# Altium footprint library THT_Components.PcbLib: 4 footprints
Each footprint in its own frame and in the unit in brackets; x right, y up, seen from the top. Pads: shape width x height; smd on the part's side, far side on the other; paste and mask are expansions set on the pad; w line width, h text height; cw(c..) or ccw(c..) is an arc to the next point about the centre after c.
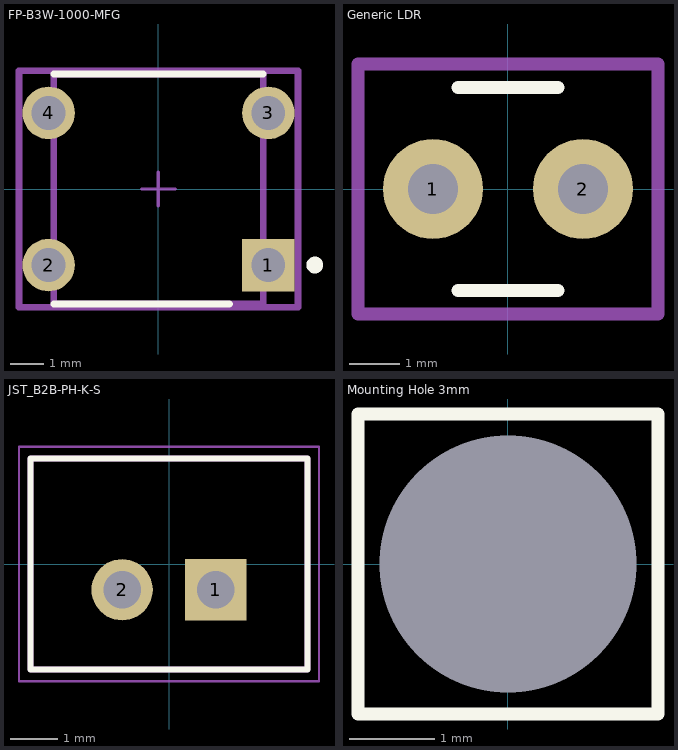
[diagram p0: the footprints below, top view; thin cyan lines are the x and y axes]

## FP-B3W-1000-MFG [mm] "Tactile switch 6x6mm THT"
pads (4):
  rect 1.55x1.55 hole 1 paste-2539.97 mask+0: 1(3.25,-2.25)
  round 1.55 hole 1 paste-2539.97 mask+0: 2(-3.25,-2.25) 3(3.25,2.25) 4(-3.25,2.25)
Top Overlay:
  circle w0.25: c4.625,-2.25 r0.125
  lines w0.2: -3.1,-3.4 2.1,-3.4 ; -3.1,3.4 3.1,3.4
Top 3D Body:
  lines w0.2: -3.1,-3.4 3.1,-3.4 3.1,3.4 -3.1,3.4 -3.1,-3.4
Top Courtyard:
  lines w0.2: -4.125,-3.5 4.125,-3.5 4.125,3.5 -4.125,3.5 -4.125,-3.5
Top Assembly:
  lines w0.2: -4.125,-3.5 4.125,-3.5 4.125,3.5 -4.125,3.5 -4.125,-3.5
  text ".Designator" at -2.286,3.998 h1
Top Component Center:
  lines w0.1: -0.5,0 0.5,0 ; 0,-0.5 0,0.5
3D body "Switch_Omron_B3W-1000_eec.STEP": height 0.25, standoff 0, extent -4.125,-3.5 4.125,3.5

## Generic LDR [mm] "Footprint de un LDR genérico THT."
pads (2):
  round 2 hole 1: 1(-1.5,0) 2(1.5,0)
Top Overlay:
  lines w0.254: -1,-2.032 1,-2.032 ; -1,2.032 1,2.032
Top Courtyard:
  lines w0.254: -3,-2.5 3,-2.5 3,2.5 -3,2.5 -3,-2.5
3D body "LDR_model.STEP": height 3.1, standoff -9.1, extent -2.55,-2.15 2.55,2.15

## JST_B2B-PH-K-S [mm]
pads (2):
  rect 1.308x1.308 / inner round 1.308 / far side rect 1.308x1.308 hole 0.8: 1(1,-0.55)
  round 1.308 hole 0.8: 2(-1,-0.55)
Top Overlay:
  lines w0.127: -2.95,-2.25 -2.95,2.25 2.95,2.25 2.95,-2.25 -2.95,-2.25
Mechanical 13:
  lines w0.127: -2.95,-2.25 2.95,-2.25 2.95,2.25 -2.95,2.25 -2.95,-2.25
Mechanical 15:
  lines w0.05: -3.2,-2.5 3.2,-2.5 3.2,2.5 -3.2,2.5 -3.2,-2.5
3D body "step_temp.STEP": height 6, standoff -3.4, extent -2.95,-2.25 2.95,2.25

## Mounting Hole 3mm [mil] "Mounting Hole 3mm"
pads (1):
  round 60 hole 118.11: ""(0,0)
Top Overlay:
  lines w5.98: -68.9,-68.9 68.9,-68.9 68.9,68.9 -68.9,68.9 -68.9,-68.9